# Altium schematic symbol library SCH - Regulators - MAX20472ATCA_V.SchLib: 1 symbol
Pins are listed as number, name and electrical type; pins without a type are passive.

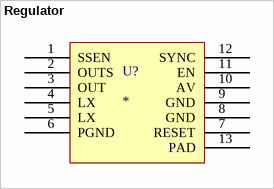
[diagram p0: symbol Regulator]

## Regulator
designator U?
pins: 1 SSEN, 2 OUTS, 3 OUT, 4 LX, 5 LX, 6 PGND, 7 RESET, 8 GND, 9 GND, 10 AV, 11 EN, 12 SYNC, 13 PAD